# Altium integrated library TI Power Management Lighting and Display.IntLib: 745 symbols (part 34 of 48)
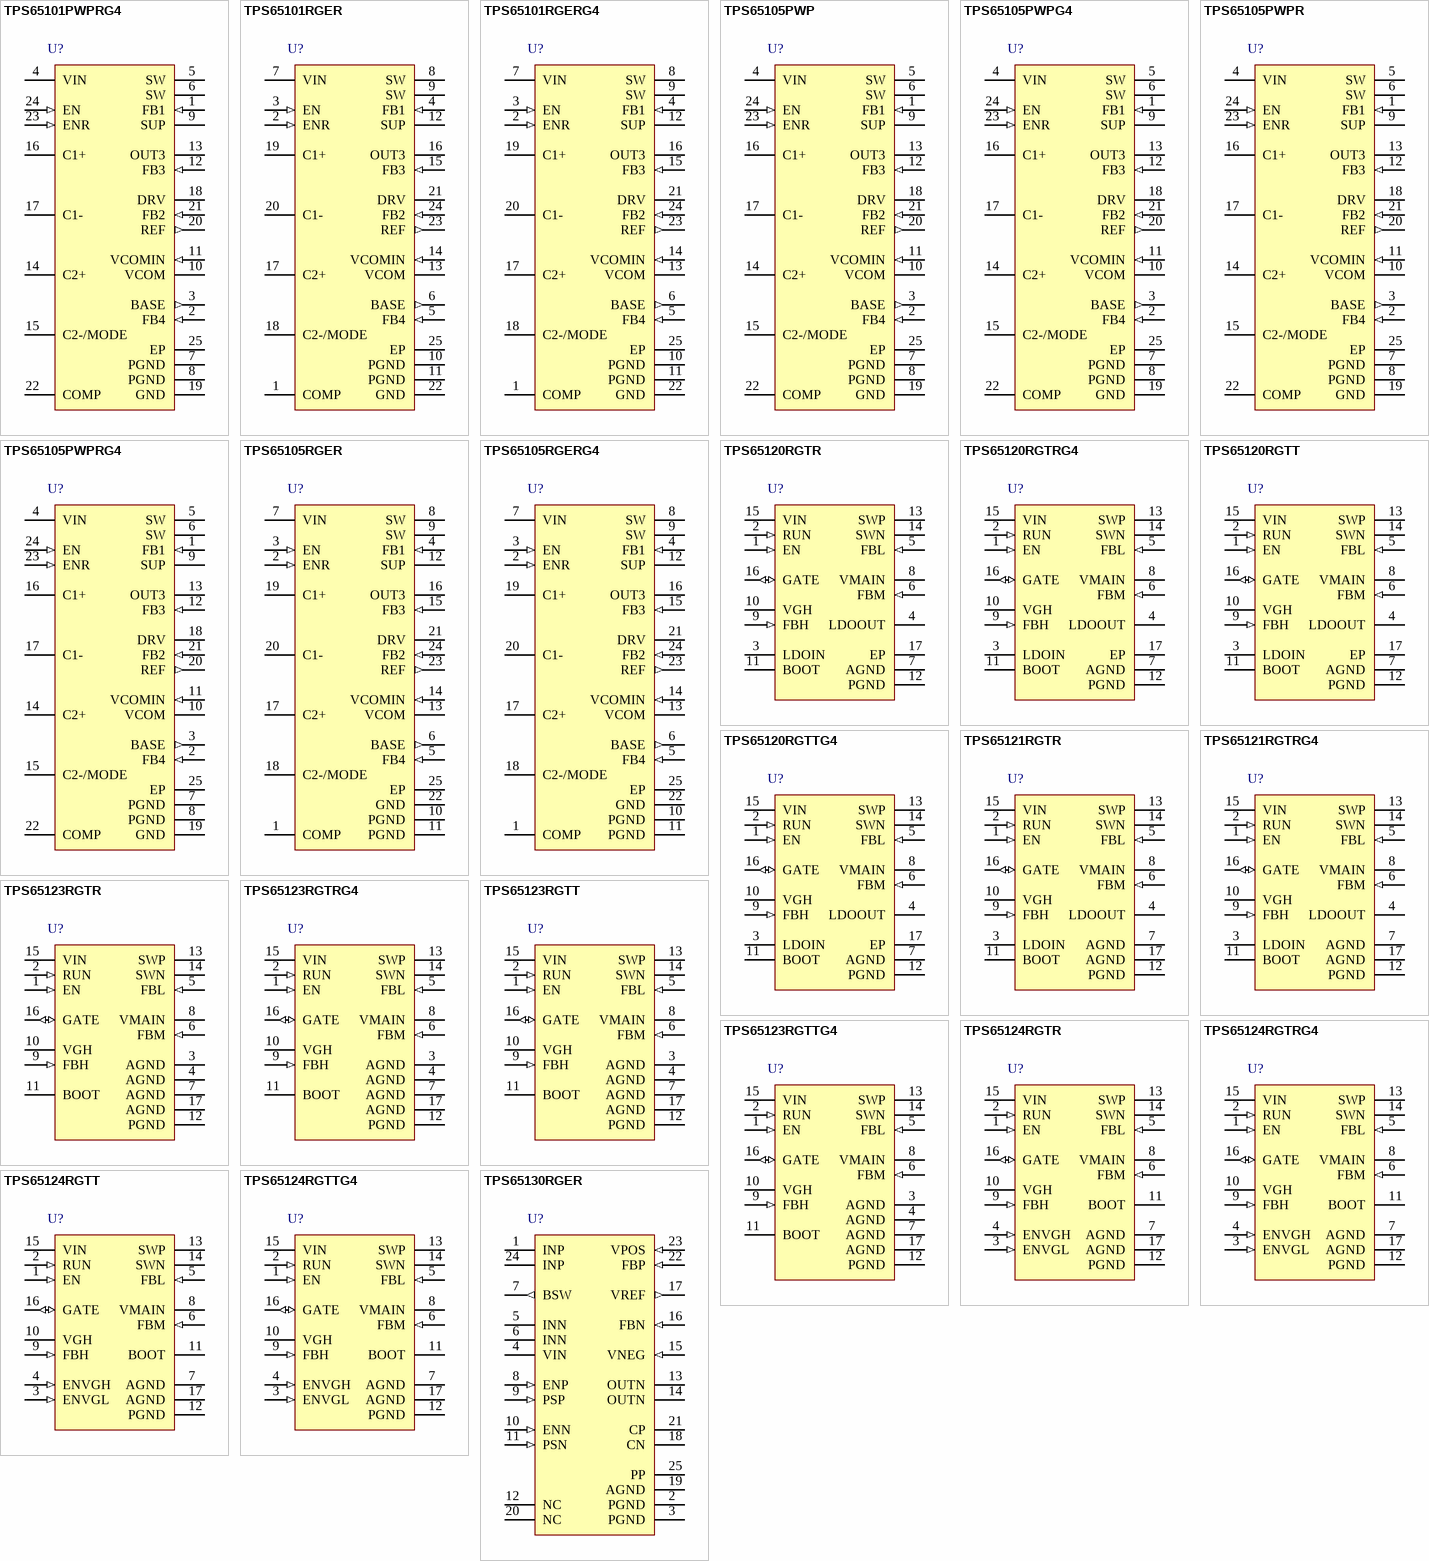
[diagram p64: symbols TPS65101PWPRG4 to TPS65130RGER]

## TPS65120RGTRG4
designator U?
4-Channel Single Inductor Multiple Outputs (SIMO) Bias IC with Fixed 3.3 V Vlogic, 2.5 to 5.5 V, -40 to 85 degC, 16-pin QFN (RGT16), Green (RoHS & no Sb/Br); Manufacturer: Texas Instruments; PartNumber: TPS65120RGTRG4; Iq(Typ)(mA): 0.181; Rating: Catalog; SubFamily: LCD/OLED Display Bias Solutions; Switching Frequency(Typ)(kHz): 4000; Synchronous Rectification: TRUE; Topology: Boost, Inverting Buck/Boost; Vin(Max)(V): 5.5; Vin(Min)(V): 2.5; DatasheetVersion: SLVS531A; PackageVersion: 4203495/H; PackageReference: RGT16-1700X1700TP; PackageDescription: 16-Pin Plastic Flat Pack, Body 3 x 3 mm, Pitch 0.5 mm; Supplier 1: Digi-Key; Supplier Part Number 1: TPS65120RGTRG4-ND; Supplier 2: Mouser; Supplier Part Number 2: 595-TPS65120RGTRG4; Eco-Plan: Green (RoHS & no Sb/Br); Mounting Technology: Surface Mount; Code_JEDEC: MO-220; ComponentLink1Description: Manufacturer URL; ComponentLink1URL: http://www.ti.com/; ComponentLink2Description: Datasheet; ComponentLink2URL: http://www.ti.com/general/docs/lit/getliterature.tsp?genericPartNumber=TPS65120&fileType=pdf; ComponentLink3Description: Package Specification; ComponentLink3URL: http://www.ti.com/litv/pdf/mpqf119g
footprint TI-RGT16-1700X1700TP_V (QFN, 16-Leads, Body 3x3mm, Pitch 0.5mm, Thermal Pad 1.7x1.7mm)
pins: 1 EN (in) "This is the enable pin of the multiple-output dc-to-dc converter. This pin must be terminated and not be left floating. A simultaneous logic-high level on EN and RUN enables the converter and a logic-low shuts down the (See Datasheet)", 2 RUN (in) "RUN controls the external P-Channel MOSFET. This pin must be terminated and not be left floating. Forcing this pin to a logic-high level turns on the external MOSFET switch.", 3 LDOIN (power) "Auxiliary linear regulator input. If this pin is connected to GND, the voltage regulator is disabled (TPS65120/1/2). The low-dropout series-pass regulator (LDO) is enabled according to the GATE signal timing.", 4 LDOOUT (power) "Auxiliary linear regulator output", 5 FBL (in) "Feedback pin for the negative output voltage divider. Regulates to 0 V nominal. Connect feedback resistor divider between VGL and main output.", 6 FBM (in) "Feedback pin for the main output voltage divider. Regulates to 1.213V nominal.", 7 AGND (power) "Analog ground. Connect to power ground (PGND) underneath IC.", 8 VMAIN (power) "Main output", 9 FBH (in) "Feedback pin for the positive output voltage divider. Regulates to 1.213 V nominal.", 10 VGH (power) "Positive output", 11 BOOT (power) "Provides a bootstrapped supply for the rectifier MOSFET driver, enabling the gate of the MOSFET to be driven above the output voltage.", 12 PGND (power) "Power ground. Connect to AGND underneath the IC.", 13 SWP (power) "Connect the inductor to this pin. This pin is connected to the drain of the low-side MOSFET switch.", 14 SWN (power) "Connect the inductor to this pin. This pin is connected to the source of the high-side MOSFET switch.", 15 VIN (power) "This is the input voltage pin of the device.", 16 GATE (io) "This pin can either be the gate driver output to an external small P-Channel MOSFET (see application section), or an active high control input. Pulling GATE above the 1.4 V logic-high level and RUN to a logic-low level (See Datasheet)", 17 EP (power) "Exposed Thermal Die AGND"

## TPS65120RGTT
designator U?
4-Channel Single Inductor Multiple Outputs (SIMO) Bias IC with Fixed 3.3 V Vlogic, 2.5 to 5.5 V, -40 to 85 degC, 16-pin QFN (RGT16), Green (RoHS & no Sb/Br); Manufacturer: Texas Instruments; PartNumber: TPS65120RGTT; Iq(Typ)(mA): 0.181; Rating: Catalog; SubFamily: LCD/OLED Display Bias Solutions; Switching Frequency(Typ)(kHz): 4000; Synchronous Rectification: TRUE; Topology: Boost, Inverting Buck/Boost; Vin(Max)(V): 5.5; Vin(Min)(V): 2.5; DatasheetVersion: SLVS531A; PackageVersion: 4203495/H; PackageReference: RGT16-1700X1700TP; PackageDescription: 16-Pin Plastic Flat Pack, Body 3 x 3 mm, Pitch 0.5 mm; Supplier 1: Digi-Key; Supplier Part Number 1: TPS65120RGTT-ND; Supplier 2: Newark; Supplier Part Number 2: 21J9261; Supplier 3: Mouser; Supplier Part Number 3: 595-TPS65120RGTT; Eco-Plan: Green (RoHS & no Sb/Br); Mounting Technology: Surface Mount; Code_JEDEC: MO-220; ComponentLink1Description: Manufacturer URL; ComponentLink1URL: http://www.ti.com/; ComponentLink2Description: Datasheet; ComponentLink2URL: http://www.ti.com/general/docs/lit/getliterature.tsp?genericPartNumber=TPS65120&fileType=pdf; ComponentLink3Description: Package Specification; ComponentLink3URL: http://www.ti.com/litv/pdf/mpqf119g
footprint TI-RGT16-1700X1700TP_V (QFN, 16-Leads, Body 3x3mm, Pitch 0.5mm, Thermal Pad 1.7x1.7mm)
pins: 1 EN (in) "This is the enable pin of the multiple-output dc-to-dc converter. This pin must be terminated and not be left floating. A simultaneous logic-high level on EN and RUN enables the converter and a logic-low shuts down the (See Datasheet)", 2 RUN (in) "RUN controls the external P-Channel MOSFET. This pin must be terminated and not be left floating. Forcing this pin to a logic-high level turns on the external MOSFET switch.", 3 LDOIN (power) "Auxiliary linear regulator input. If this pin is connected to GND, the voltage regulator is disabled (TPS65120/1/2). The low-dropout series-pass regulator (LDO) is enabled according to the GATE signal timing.", 4 LDOOUT (power) "Auxiliary linear regulator output", 5 FBL (in) "Feedback pin for the negative output voltage divider. Regulates to 0 V nominal. Connect feedback resistor divider between VGL and main output.", 6 FBM (in) "Feedback pin for the main output voltage divider. Regulates to 1.213V nominal.", 7 AGND (power) "Analog ground. Connect to power ground (PGND) underneath IC.", 8 VMAIN (power) "Main output", 9 FBH (in) "Feedback pin for the positive output voltage divider. Regulates to 1.213 V nominal.", 10 VGH (power) "Positive output", 11 BOOT (power) "Provides a bootstrapped supply for the rectifier MOSFET driver, enabling the gate of the MOSFET to be driven above the output voltage.", 12 PGND (power) "Power ground. Connect to AGND underneath the IC.", 13 SWP (power) "Connect the inductor to this pin. This pin is connected to the drain of the low-side MOSFET switch.", 14 SWN (power) "Connect the inductor to this pin. This pin is connected to the source of the high-side MOSFET switch.", 15 VIN (power) "This is the input voltage pin of the device.", 16 GATE (io) "This pin can either be the gate driver output to an external small P-Channel MOSFET (see application section), or an active high control input. Pulling GATE above the 1.4 V logic-high level and RUN to a logic-low level (See Datasheet)", 17 EP (power) "Exposed Thermal Die AGND"

## TPS65120RGTTG4
designator U?
4-Channel Single Inductor Multiple Outputs (SIMO) Bias IC with Fixed 3.3 V Vlogic, 2.5 to 5.5 V, -40 to 85 degC, 16-pin QFN (RGT16), Green (RoHS & no Sb/Br); Manufacturer: Texas Instruments; PartNumber: TPS65120RGTTG4; Iq(Typ)(mA): 0.181; Rating: Catalog; SubFamily: LCD/OLED Display Bias Solutions; Switching Frequency(Typ)(kHz): 4000; Synchronous Rectification: TRUE; Topology: Boost, Inverting Buck/Boost; Vin(Max)(V): 5.5; Vin(Min)(V): 2.5; DatasheetVersion: SLVS531A; PackageVersion: 4203495/H; PackageReference: RGT16-1700X1700TP; PackageDescription: 16-Pin Plastic Flat Pack, Body 3 x 3 mm, Pitch 0.5 mm; Supplier 1: Digi-Key; Supplier Part Number 1: TPS65120RGTTG4-ND; Supplier 2: Farnell; Supplier Part Number 2: 1226313; Supplier 3: Mouser; Supplier Part Number 3: 595-TPS65120RGTTG4; Eco-Plan: Green (RoHS & no Sb/Br); Mounting Technology: Surface Mount; Code_JEDEC: MO-220; ComponentLink1Description: Manufacturer URL; ComponentLink1URL: http://www.ti.com/; ComponentLink2Description: Datasheet; ComponentLink2URL: http://www.ti.com/general/docs/lit/getliterature.tsp?genericPartNumber=TPS65120&fileType=pdf; ComponentLink3Description: Package Specification; ComponentLink3URL: http://www.ti.com/litv/pdf/mpqf119g
footprint TI-RGT16-1700X1700TP_V (QFN, 16-Leads, Body 3x3mm, Pitch 0.5mm, Thermal Pad 1.7x1.7mm)
pins: 1 EN (in) "This is the enable pin of the multiple-output dc-to-dc converter. This pin must be terminated and not be left floating. A simultaneous logic-high level on EN and RUN enables the converter and a logic-low shuts down the (See Datasheet)", 2 RUN (in) "RUN controls the external P-Channel MOSFET. This pin must be terminated and not be left floating. Forcing this pin to a logic-high level turns on the external MOSFET switch.", 3 LDOIN (power) "Auxiliary linear regulator input. If this pin is connected to GND, the voltage regulator is disabled (TPS65120/1/2). The low-dropout series-pass regulator (LDO) is enabled according to the GATE signal timing.", 4 LDOOUT (power) "Auxiliary linear regulator output", 5 FBL (in) "Feedback pin for the negative output voltage divider. Regulates to 0 V nominal. Connect feedback resistor divider between VGL and main output.", 6 FBM (in) "Feedback pin for the main output voltage divider. Regulates to 1.213V nominal.", 7 AGND (power) "Analog ground. Connect to power ground (PGND) underneath IC.", 8 VMAIN (power) "Main output", 9 FBH (in) "Feedback pin for the positive output voltage divider. Regulates to 1.213 V nominal.", 10 VGH (power) "Positive output", 11 BOOT (power) "Provides a bootstrapped supply for the rectifier MOSFET driver, enabling the gate of the MOSFET to be driven above the output voltage.", 12 PGND (power) "Power ground. Connect to AGND underneath the IC.", 13 SWP (power) "Connect the inductor to this pin. This pin is connected to the drain of the low-side MOSFET switch.", 14 SWN (power) "Connect the inductor to this pin. This pin is connected to the source of the high-side MOSFET switch.", 15 VIN (power) "This is the input voltage pin of the device.", 16 GATE (io) "This pin can either be the gate driver output to an external small P-Channel MOSFET (see application section), or an active high control input. Pulling GATE above the 1.4 V logic-high level and RUN to a logic-low level (See Datasheet)", 17 EP (power) "Exposed Thermal Die AGND"

## TPS65121RGTR
designator U?
4-Channel Single Inductor Multiple Outputs (SIMO) Bias IC with Fixed 1.8 V Vlogic, 2.5 to 5.5 V, -40 to 85 degC, 16-pin QFN (RGT16), Green (RoHS & no Sb/Br); Manufacturer: Texas Instruments; PartNumber: TPS65121RGTR; Iq(Typ)(mA): 0.181; Rating: Catalog; SubFamily: LCD/OLED Display Bias Solutions; Switching Frequency(Typ)(kHz): 4000; Topology: Boost, Inverting Buck/Boost; Vin(Max)(V): 5.5; Vin(Min)(V): 2.5; DatasheetVersion: SLVS531A; PackageVersion: 4203495/H; PackageReference: RGT16-1700X1700TP; PackageDescription: 16-Pin Plastic Flat Pack, Body 3 x 3 mm, Pitch 0.5 mm; Supplier 1: Digi-Key; Supplier Part Number 1: 296-17182-2-ND; Supplier 2: Digi-Key; Supplier Part Number 2: 296-17182-1-ND; Supplier 3: Digi-Key; Supplier Part Number 3: 296-17182-6-ND; Supplier 4: Mouser; Supplier Part Number 4: 595-TPS65121RGTR; Eco-Plan: Green (RoHS & no Sb/Br); Mounting Technology: Surface Mount; Code_JEDEC: MO-220; ComponentLink1Description: Manufacturer URL; ComponentLink1URL: http://www.ti.com/; ComponentLink2Description: Datasheet; ComponentLink2URL: http://www.ti.com/general/docs/lit/getliterature.tsp?genericPartNumber=TPS65121&fileType=pdf; ComponentLink3Description: Package Specification; ComponentLink3URL: http://www.ti.com/litv/pdf/mpqf119g
footprint TI-RGT16-1700X1700TP_V (QFN, 16-Leads, Body 3x3mm, Pitch 0.5mm, Thermal Pad 1.7x1.7mm)
pins: 1 EN (in) "This is the enable pin of the multiple-output dc-to-dc converter. This pin must be terminated and not be left floating. A simultaneous logic-high level on EN and RUN enables the converter and a logic-low shuts down the (See Datasheet)", 2 RUN (in) "RUN controls the external P-Channel MOSFET. This pin must be terminated and not be left floating. Forcing this pin to a logic-high level turns on the external MOSFET switch.", 3 LDOIN (power) "Auxiliary linear regulator input. If this pin is connected to GND, the voltage regulator is disabled (TPS65120/1/2). The low-dropout series-pass regulator (LDO) is enabled according to the GATE signal timing.", 4 LDOOUT (power) "Auxiliary linear regulator output (TPS65120/1/2).", 5 FBL (in) "Feedback pin for the negative output voltage divider. Regulates to 0 V nominal. Connect feedback resistor divider between VGL and main output.", 6 FBM (in) "Feedback pin for the main output voltage divider. Regulates to 1.213V nominal.", 7 AGND (power) "Analog ground. Connect to power ground (PGND) underneath IC. Pins 3 and 4 are only used for AGND in TPS65123.", 8 VMAIN (power) "Main output", 9 FBH (in) "Feedback pin for the positive output voltage divider. Regulates to 1.213 V nominal.", 10 VGH (power) "Positive output", 11 BOOT (power) "Provides a bootstrapped supply for the rectifier MOSFET driver, enabling the gate of the MOSFET to be driven above the output voltage.", 12 PGND (power) "Power ground. Connect to AGND underneath the IC.", 13 SWP (power) "Connect the inductor to this pin. This pin is connected to the drain of the low-side MOSFET switch.", 14 SWN (power) "Connect the inductor to this pin. This pin is connected to the source of the high-side MOSFET switch.", 15 VIN (power) "This is the input voltage pin of the device", 16 GATE (io) "This pin can either be the gate driver output to an external small P-Channel MOSFET (see application section), or an active high control input. Pulling GATE above the 1.4 V logic-high level and RUN to a logic-low level (See Datasheet)", 17 AGND (power) "Exposed Thermal Die"

## TPS65121RGTRG4
designator U?
4-Channel Single Inductor Multiple Outputs (SIMO) Bias IC with Fixed 1.8 V Vlogic, 2.5 to 5.5 V, -40 to 85 degC, 16-pin QFN (RGT16), Green (RoHS & no Sb/Br); Manufacturer: Texas Instruments; PartNumber: TPS65121RGTRG4; Iq(Typ)(mA): 0.181; Rating: Catalog; SubFamily: LCD/OLED Display Bias Solutions; Switching Frequency(Typ)(kHz): 4000; Topology: Boost, Inverting Buck/Boost; Vin(Max)(V): 5.5; Vin(Min)(V): 2.5; DatasheetVersion: SLVS531A; PackageVersion: 4203495/H; PackageReference: RGT16-1700X1700TP; PackageDescription: 16-Pin Plastic Flat Pack, Body 3 x 3 mm, Pitch 0.5 mm; Supplier 1: Digi-Key; Supplier Part Number 1: TPS65121RGTRG4-ND; Supplier 2: Newark; Supplier Part Number 2: 24K6054; Supplier 3: Mouser; Supplier Part Number 3: 595-TPS65121RGTRG4; Eco-Plan: Green (RoHS & no Sb/Br); Mounting Technology: Surface Mount; Code_JEDEC: MO-220; ComponentLink1Description: Manufacturer URL; ComponentLink1URL: http://www.ti.com/; ComponentLink2Description: Datasheet; ComponentLink2URL: http://www.ti.com/general/docs/lit/getliterature.tsp?genericPartNumber=TPS65121&fileType=pdf; ComponentLink3Description: Package Specification; ComponentLink3URL: http://www.ti.com/litv/pdf/mpqf119g
footprint TI-RGT16-1700X1700TP_V (QFN, 16-Leads, Body 3x3mm, Pitch 0.5mm, Thermal Pad 1.7x1.7mm)
pins: 1 EN (in) "This is the enable pin of the multiple-output dc-to-dc converter. This pin must be terminated and not be left floating. A simultaneous logic-high level on EN and RUN enables the converter and a logic-low shuts down the (See Datasheet)", 2 RUN (in) "RUN controls the external P-Channel MOSFET. This pin must be terminated and not be left floating. Forcing this pin to a logic-high level turns on the external MOSFET switch.", 3 LDOIN (power) "Auxiliary linear regulator input. If this pin is connected to GND, the voltage regulator is disabled (TPS65120/1/2). The low-dropout series-pass regulator (LDO) is enabled according to the GATE signal timing.", 4 LDOOUT (power) "Auxiliary linear regulator output (TPS65120/1/2).", 5 FBL (in) "Feedback pin for the negative output voltage divider. Regulates to 0 V nominal. Connect feedback resistor divider between VGL and main output.", 6 FBM (in) "Feedback pin for the main output voltage divider. Regulates to 1.213V nominal.", 7 AGND (power) "Analog ground. Connect to power ground (PGND) underneath IC. Pins 3 and 4 are only used for AGND in TPS65123.", 8 VMAIN (power) "Main output", 9 FBH (in) "Feedback pin for the positive output voltage divider. Regulates to 1.213 V nominal.", 10 VGH (power) "Positive output", 11 BOOT (power) "Provides a bootstrapped supply for the rectifier MOSFET driver, enabling the gate of the MOSFET to be driven above the output voltage.", 12 PGND (power) "Power ground. Connect to AGND underneath the IC.", 13 SWP (power) "Connect the inductor to this pin. This pin is connected to the drain of the low-side MOSFET switch.", 14 SWN (power) "Connect the inductor to this pin. This pin is connected to the source of the high-side MOSFET switch.", 15 VIN (power) "This is the input voltage pin of the device", 16 GATE (io) "This pin can either be the gate driver output to an external small P-Channel MOSFET (see application section), or an active high control input. Pulling GATE above the 1.4 V logic-high level and RUN to a logic-low level (See Datasheet)", 17 AGND (power) "Exposed Thermal Die"

## TPS65123RGTR
designator U?
3-Channel Single Inductor Multiple Outputs (SIMO) Bias IC, 2.5 to 5.5 V, -40 to 85 degC, 16-pin QFN (RGT16), Green (RoHS & no Sb/Br); Manufacturer: Texas Instruments; PartNumber: TPS65123RGTR; Iq(Typ)(mA): 0.181; Rating: Catalog; SubFamily: LCD/OLED Display Bias Solutions; Switching Frequency(Typ)(kHz): 4000; Topology: Boost, Inverting Buck/Boost; Vin(Max)(V): 5.5; Vin(Min)(V): 2.5; DatasheetVersion: SLVS531A; PackageVersion: 4203495/H; PackageReference: RGT16-1700X1700TP; PackageDescription: 16-Pin Plastic Flat Pack, Body 3 x 3 mm, Pitch 0.5 mm; Supplier 1: Digi-Key; Supplier Part Number 1: 296-17183-2-ND; Supplier 2: Digi-Key; Supplier Part Number 2: 296-17183-1-ND; Supplier 3: Digi-Key; Supplier Part Number 3: 296-17183-6-ND; Supplier 4: Mouser; Supplier Part Number 4: 595-TPS65123RGTR; Eco-Plan: Green (RoHS & no Sb/Br); Mounting Technology: Surface Mount; Code_JEDEC: MO-220; ComponentLink1Description: Manufacturer URL; ComponentLink1URL: http://www.ti.com/; ComponentLink2Description: Datasheet; ComponentLink2URL: http://www.ti.com/general/docs/lit/getliterature.tsp?genericPartNumber=TPS65123&fileType=pdf; ComponentLink3Description: Package Specification; ComponentLink3URL: http://www.ti.com/litv/pdf/mpqf119g
footprint TI-RGT16-1700X1700TP_V (QFN, 16-Leads, Body 3x3mm, Pitch 0.5mm, Thermal Pad 1.7x1.7mm)
pins: 1 EN (in) "This is the enable pin of the multiple-output dc-to-dc converter. This pin must be terminated and not be left floating. A simultaneous logic-high level on EN and RUN enables the converter and a logic-low shuts down the (See Datasheet)", 2 RUN (in) "RUN controls the external P-Channel MOSFET. This pin must be terminated and not be left floating. Forcing this pin to a logic-high level turns on the external MOSFET switch.", 3 AGND (power) "Analog ground. Connect to power ground (PGND) underneath IC. Pins 3 and 4 are only used for AGND in TPS65123.", 4 AGND (power) "Analog ground. Connect to power ground (PGND) underneath IC. Pins 3 and 4 are only used for AGND in TPS65123.", 5 FBL (in) "Feedback pin for the negative output voltage divider. Regulates to 0 V nominal. Connect feedback resistor divider between VGL and main output.", 6 FBM (in) "Feedback pin for the main output voltage divider. Regulates to 1.213V nominal.", 7 AGND (power) "Analog ground. Connect to power ground (PGND) underneath IC. Pins 3 and 4 are only used for AGND in TPS65123.", 8 VMAIN (power) "Main output", 9 FBH (in) "Feedback pin for the positive output voltage divider. Regulates to 1.213 V nominal.", 10 VGH (power) "Positive output", 11 BOOT (power) "Provides a bootstrapped supply for the rectifier MOSFET driver, enabling the gate of the MOSFET to be driven above the output voltage.", 12 PGND (power) "Power ground. Connect to AGND underneath the IC.", 13 SWP (power) "Connect the inductor to this pin. This pin is connected to the drain of the low-side MOSFET switch.", 14 SWN (power) "Connect the inductor to this pin. This pin is connected to the source of the high-side MOSFET switch.", 15 VIN (power) "This is the input voltage pin of the device", 16 GATE (io) "This pin can either be the gate driver output to an external small P-Channel MOSFET (see application section), or an active high control input. Pulling GATE above the 1.4 V logic-high level and RUN to a logic-low level (See Datasheet)", 17 AGND (power) "Exposed Thermal Die"

## TPS65123RGTRG4
designator U?
3-Channel Single Inductor Multiple Outputs (SIMO) Bias IC, 2.5 to 5.5 V, -40 to 85 degC, 16-pin QFN (RGT16), Green (RoHS & no Sb/Br); Manufacturer: Texas Instruments; PartNumber: TPS65123RGTRG4; Iq(Typ)(mA): 0.181; Rating: Catalog; SubFamily: LCD/OLED Display Bias Solutions; Switching Frequency(Typ)(kHz): 4000; Topology: Boost, Inverting Buck/Boost; Vin(Max)(V): 5.5; Vin(Min)(V): 2.5; DatasheetVersion: SLVS531A; PackageVersion: 4203495/H; PackageReference: RGT16-1700X1700TP; PackageDescription: 16-Pin Plastic Flat Pack, Body 3 x 3 mm, Pitch 0.5 mm; Supplier 1: Digi-Key; Supplier Part Number 1: TPS65123RGTRG4-ND; Supplier 2: Mouser; Supplier Part Number 2: 595-TPS65123RGTRG4; Eco-Plan: Green (RoHS & no Sb/Br); Mounting Technology: Surface Mount; Code_JEDEC: MO-220; ComponentLink1Description: Manufacturer URL; ComponentLink1URL: http://www.ti.com/; ComponentLink2Description: Datasheet; ComponentLink2URL: http://www.ti.com/general/docs/lit/getliterature.tsp?genericPartNumber=TPS65123&fileType=pdf; ComponentLink3Description: Package Specification; ComponentLink3URL: http://www.ti.com/litv/pdf/mpqf119g
footprint TI-RGT16-1700X1700TP_V (QFN, 16-Leads, Body 3x3mm, Pitch 0.5mm, Thermal Pad 1.7x1.7mm)
pins: 1 EN (in) "This is the enable pin of the multiple-output dc-to-dc converter. This pin must be terminated and not be left floating. A simultaneous logic-high level on EN and RUN enables the converter and a logic-low shuts down the (See Datasheet)", 2 RUN (in) "RUN controls the external P-Channel MOSFET. This pin must be terminated and not be left floating. Forcing this pin to a logic-high level turns on the external MOSFET switch.", 3 AGND (power) "Analog ground. Connect to power ground (PGND) underneath IC. Pins 3 and 4 are only used for AGND in TPS65123.", 4 AGND (power) "Analog ground. Connect to power ground (PGND) underneath IC. Pins 3 and 4 are only used for AGND in TPS65123.", 5 FBL (in) "Feedback pin for the negative output voltage divider. Regulates to 0 V nominal. Connect feedback resistor divider between VGL and main output.", 6 FBM (in) "Feedback pin for the main output voltage divider. Regulates to 1.213V nominal.", 7 AGND (power) "Analog ground. Connect to power ground (PGND) underneath IC. Pins 3 and 4 are only used for AGND in TPS65123.", 8 VMAIN (power) "Main output", 9 FBH (in) "Feedback pin for the positive output voltage divider. Regulates to 1.213 V nominal.", 10 VGH (power) "Positive output", 11 BOOT (power) "Provides a bootstrapped supply for the rectifier MOSFET driver, enabling the gate of the MOSFET to be driven above the output voltage.", 12 PGND (power) "Power ground. Connect to AGND underneath the IC.", 13 SWP (power) "Connect the inductor to this pin. This pin is connected to the drain of the low-side MOSFET switch.", 14 SWN (power) "Connect the inductor to this pin. This pin is connected to the source of the high-side MOSFET switch.", 15 VIN (power) "This is the input voltage pin of the device", 16 GATE (io) "This pin can either be the gate driver output to an external small P-Channel MOSFET (see application section), or an active high control input. Pulling GATE above the 1.4 V logic-high level and RUN to a logic-low level (See Datasheet)", 17 AGND (power) "Exposed Thermal Die"

## TPS65123RGTT
designator U?
3-Channel Single Inductor Multiple Outputs (SIMO) Bias IC, 2.5 to 5.5 V, -40 to 85 degC, 16-pin QFN (RGT16), Green (RoHS & no Sb/Br); Manufacturer: Texas Instruments; PartNumber: TPS65123RGTT; Iq(Typ)(mA): 0.181; Rating: Catalog; SubFamily: LCD/OLED Display Bias Solutions; Switching Frequency(Typ)(kHz): 4000; Topology: Boost, Inverting Buck/Boost; Vin(Max)(V): 5.5; Vin(Min)(V): 2.5; DatasheetVersion: SLVS531A; PackageVersion: 4203495/H; PackageReference: RGT16-1700X1700TP; PackageDescription: 16-Pin Plastic Flat Pack, Body 3 x 3 mm, Pitch 0.5 mm; Supplier 1: Digi-Key; Supplier Part Number 1: TPS65123RGTT-ND; Supplier 2: Newark; Supplier Part Number 2: 21J9265; Supplier 3: Mouser; Supplier Part Number 3: 595-TPS65123RGTT; Eco-Plan: Green (RoHS & no Sb/Br); Mounting Technology: Surface Mount; Code_JEDEC: MO-220; ComponentLink1Description: Manufacturer URL; ComponentLink1URL: http://www.ti.com/; ComponentLink2Description: Datasheet; ComponentLink2URL: http://www.ti.com/general/docs/lit/getliterature.tsp?genericPartNumber=TPS65123&fileType=pdf; ComponentLink3Description: Package Specification; ComponentLink3URL: http://www.ti.com/litv/pdf/mpqf119g
footprint TI-RGT16-1700X1700TP_V (QFN, 16-Leads, Body 3x3mm, Pitch 0.5mm, Thermal Pad 1.7x1.7mm)
pins: 1 EN (in) "This is the enable pin of the multiple-output dc-to-dc converter. This pin must be terminated and not be left floating. A simultaneous logic-high level on EN and RUN enables the converter and a logic-low shuts down the (See Datasheet)", 2 RUN (in) "RUN controls the external P-Channel MOSFET. This pin must be terminated and not be left floating. Forcing this pin to a logic-high level turns on the external MOSFET switch.", 3 AGND (power) "Analog ground. Connect to power ground (PGND) underneath IC. Pins 3 and 4 are only used for AGND in TPS65123.", 4 AGND (power) "Analog ground. Connect to power ground (PGND) underneath IC. Pins 3 and 4 are only used for AGND in TPS65123.", 5 FBL (in) "Feedback pin for the negative output voltage divider. Regulates to 0 V nominal. Connect feedback resistor divider between VGL and main output.", 6 FBM (in) "Feedback pin for the main output voltage divider. Regulates to 1.213V nominal.", 7 AGND (power) "Analog ground. Connect to power ground (PGND) underneath IC. Pins 3 and 4 are only used for AGND in TPS65123.", 8 VMAIN (power) "Main output", 9 FBH (in) "Feedback pin for the positive output voltage divider. Regulates to 1.213 V nominal.", 10 VGH (power) "Positive output", 11 BOOT (power) "Provides a bootstrapped supply for the rectifier MOSFET driver, enabling the gate of the MOSFET to be driven above the output voltage.", 12 PGND (power) "Power ground. Connect to AGND underneath the IC.", 13 SWP (power) "Connect the inductor to this pin. This pin is connected to the drain of the low-side MOSFET switch.", 14 SWN (power) "Connect the inductor to this pin. This pin is connected to the source of the high-side MOSFET switch.", 15 VIN (power) "This is the input voltage pin of the device", 16 GATE (io) "This pin can either be the gate driver output to an external small P-Channel MOSFET (see application section), or an active high control input. Pulling GATE above the 1.4 V logic-high level and RUN to a logic-low level (See Datasheet)", 17 AGND (power) "Exposed Thermal Die"

## TPS65123RGTTG4
designator U?
3-Channel Single Inductor Multiple Outputs (SIMO) Bias IC, 2.5 to 5.5 V, -40 to 85 degC, 16-pin QFN (RGT16), Green (RoHS & no Sb/Br); Manufacturer: Texas Instruments; PartNumber: TPS65123RGTTG4; Iq(Typ)(mA): 0.181; Rating: Catalog; SubFamily: LCD/OLED Display Bias Solutions; Switching Frequency(Typ)(kHz): 4000; Topology: Boost, Inverting Buck/Boost; Vin(Max)(V): 5.5; Vin(Min)(V): 2.5; DatasheetVersion: SLVS531A; PackageVersion: 4203495/H; PackageReference: RGT16-1700X1700TP; PackageDescription: 16-Pin Plastic Flat Pack, Body 3 x 3 mm, Pitch 0.5 mm; Supplier 1: Digi-Key; Supplier Part Number 1: TPS65123RGTTG4-ND; Supplier 2: Mouser; Supplier Part Number 2: 595-TPS65123RGTTG4; Eco-Plan: Green (RoHS & no Sb/Br); Mounting Technology: Surface Mount; Code_JEDEC: MO-220; ComponentLink1Description: Manufacturer URL; ComponentLink1URL: http://www.ti.com/; ComponentLink2Description: Datasheet; ComponentLink2URL: http://www.ti.com/general/docs/lit/getliterature.tsp?genericPartNumber=TPS65123&fileType=pdf; ComponentLink3Description: Package Specification; ComponentLink3URL: http://www.ti.com/litv/pdf/mpqf119g
footprint TI-RGT16-1700X1700TP_V (QFN, 16-Leads, Body 3x3mm, Pitch 0.5mm, Thermal Pad 1.7x1.7mm)
pins: 1 EN (in) "This is the enable pin of the multiple-output dc-to-dc converter. This pin must be terminated and not be left floating. A simultaneous logic-high level on EN and RUN enables the converter and a logic-low shuts down the (See Datasheet)", 2 RUN (in) "RUN controls the external P-Channel MOSFET. This pin must be terminated and not be left floating. Forcing this pin to a logic-high level turns on the external MOSFET switch.", 3 AGND (power) "Analog ground. Connect to power ground (PGND) underneath IC. Pins 3 and 4 are only used for AGND in TPS65123.", 4 AGND (power) "Analog ground. Connect to power ground (PGND) underneath IC. Pins 3 and 4 are only used for AGND in TPS65123.", 5 FBL (in) "Feedback pin for the negative output voltage divider. Regulates to 0 V nominal. Connect feedback resistor divider between VGL and main output.", 6 FBM (in) "Feedback pin for the main output voltage divider. Regulates to 1.213V nominal.", 7 AGND (power) "Analog ground. Connect to power ground (PGND) underneath IC. Pins 3 and 4 are only used for AGND in TPS65123.", 8 VMAIN (power) "Main output", 9 FBH (in) "Feedback pin for the positive output voltage divider. Regulates to 1.213 V nominal.", 10 VGH (power) "Positive output", 11 BOOT (power) "Provides a bootstrapped supply for the rectifier MOSFET driver, enabling the gate of the MOSFET to be driven above the output voltage.", 12 PGND (power) "Power ground. Connect to AGND underneath the IC.", 13 SWP (power) "Connect the inductor to this pin. This pin is connected to the drain of the low-side MOSFET switch.", 14 SWN (power) "Connect the inductor to this pin. This pin is connected to the source of the high-side MOSFET switch.", 15 VIN (power) "This is the input voltage pin of the device", 16 GATE (io) "This pin can either be the gate driver output to an external small P-Channel MOSFET (see application section), or an active high control input. Pulling GATE above the 1.4 V logic-high level and RUN to a logic-low level (See Datasheet)", 17 AGND (power) "Exposed Thermal Die"

## TPS65124RGTR
designator U?
3-Channel Single Inductor Multiple Outputs (SIMO) Bias IC with Adjustable Sequencing, 2.5 to 5.5 V, -40 to 85 degC, 16-pin QFN (RGT16), Green (RoHS & no Sb/Br); Manufacturer: Texas Instruments; PartNumber: TPS65124RGTR; Iq(Typ)(mA): 0.181; Rating: Catalog; SubFamily: LCD/OLED Display Bias Solutions; Switching Frequency(Typ)(kHz): 4000; Topology: Boost, Inverting Buck/Boost; Vin(Max)(V): 5.5; Vin(Min)(V): 2.5; DatasheetVersion: SLVS531A; PackageVersion: 4203495/H; PackageReference: RGT16-1700X1700TP; PackageDescription: 16-Pin Plastic Flat Pack, Body 3 x 3 mm, Pitch 0.5 mm; Supplier 1: Digi-Key; Supplier Part Number 1: 296-17184-2-ND; Supplier 2: Digi-Key; Supplier Part Number 2: 296-17184-1-ND; Supplier 3: Digi-Key; Supplier Part Number 3: 296-17184-6-ND; Supplier 4: Newark; Supplier Part Number 4: 21J9266; Supplier 5: Mouser; Supplier Part Number 5: 595-TPS65124RGTR; Eco-Plan: Green (RoHS & no Sb/Br); Mounting Technology: Surface Mount; Code_JEDEC: MO-220; ComponentLink1Description: Manufacturer URL; ComponentLink1URL: http://www.ti.com/; ComponentLink2Description: Datasheet; ComponentLink2URL: http://www.ti.com/general/docs/lit/getliterature.tsp?genericPartNumber=TPS65124&fileType=pdf; ComponentLink3Description: Package Specification; ComponentLink3URL: http://www.ti.com/litv/pdf/mpqf119g
footprint TI-RGT16-1700X1700TP_V (QFN, 16-Leads, Body 3x3mm, Pitch 0.5mm, Thermal Pad 1.7x1.7mm)
pins: 1 EN (in) "This is the enable pin of the multiple-output dc-to-dc converter. This pin must be terminated and not be left floating. A simultaneous logic-high level on EN and RUN enables the converter and a logic-low shuts down the (See Datasheet)", 2 RUN (in) "RUN controls the external P-Channel MOSFET. This pin must be terminated and not be left floating. Forcing this pin to a logic-high level turns on the external MOSFET switch.", 3 ENVGL (in) "Enable pin for negative output (TPS65124). This pin should be terminated and not be left floating", 4 ENVGH (in) "Enable pin for positive output (TPS65124). This pin should be terminated and not be left floating", 5 FBL (in) "Feedback pin for the negative output voltage divider. Regulates to 0 V nominal. Connect feedback resistor divider between VGL and main output.", 6 FBM (in) "Feedback pin for the main output voltage divider. Regulates to 1.213V nominal.", 7 AGND (power) "Analog ground. Connect to power ground (PGND) underneath IC. Pins 3 and 4 are only used for AGND in TPS65123.", 8 VMAIN (power) "Main output", 9 FBH (in) "Feedback pin for the positive output voltage divider. Regulates to 1.213 V nominal.", 10 VGH (power) "Positive output", 11 BOOT (power) "Provides a bootstrapped supply for the rectifier MOSFET driver, enabling the gate of the MOSFET to be driven above the output voltage.", 12 PGND (power) "Power ground. Connect to AGND underneath the IC.", 13 SWP (power) "Connect the inductor to this pin. This pin is connected to the drain of the low-side MOSFET switch.", 14 SWN (power) "Connect the inductor to this pin. This pin is connected to the source of the high-side MOSFET switch.", 15 VIN (power) "This is the input voltage pin of the device", 16 GATE (io) "This pin can either be the gate driver output to an external small P-Channel MOSFET (see application section), or an active high control input. Pulling GATE above the 1.4 V logic-high level and RUN to a logic-low level (See Datasheet)", 17 AGND (power) "Exposed Thermal Die"

## TPS65124RGTRG4
designator U?
3-Channel Single Inductor Multiple Outputs (SIMO) Bias IC with Adjustable Sequencing, 2.5 to 5.5 V, -40 to 85 degC, 16-pin QFN (RGT16), Green (RoHS & no Sb/Br); Manufacturer: Texas Instruments; PartNumber: TPS65124RGTRG4; Iq(Typ)(mA): 0.181; Rating: Catalog; SubFamily: LCD/OLED Display Bias Solutions; Switching Frequency(Typ)(kHz): 4000; Topology: Boost, Inverting Buck/Boost; Vin(Max)(V): 5.5; Vin(Min)(V): 2.5; DatasheetVersion: SLVS531A; PackageVersion: 4203495/H; PackageReference: RGT16-1700X1700TP; PackageDescription: 16-Pin Plastic Flat Pack, Body 3 x 3 mm, Pitch 0.5 mm; Supplier 1: Digi-Key; Supplier Part Number 1: TPS65124RGTRG4-ND; Supplier 2: Newark; Supplier Part Number 2: 71J8218; Supplier 3: Mouser; Supplier Part Number 3: 595-TPS65124RGTRG4; Eco-Plan: Green (RoHS & no Sb/Br); Mounting Technology: Surface Mount; Code_JEDEC: MO-220; ComponentLink1Description: Manufacturer URL; ComponentLink1URL: http://www.ti.com/; ComponentLink2Description: Datasheet; ComponentLink2URL: http://www.ti.com/general/docs/lit/getliterature.tsp?genericPartNumber=TPS65124&fileType=pdf; ComponentLink3Description: Package Specification; ComponentLink3URL: http://www.ti.com/litv/pdf/mpqf119g
footprint TI-RGT16-1700X1700TP_V (QFN, 16-Leads, Body 3x3mm, Pitch 0.5mm, Thermal Pad 1.7x1.7mm)
pins: 1 EN (in) "This is the enable pin of the multiple-output dc-to-dc converter. This pin must be terminated and not be left floating. A simultaneous logic-high level on EN and RUN enables the converter and a logic-low shuts down the (See Datasheet)", 2 RUN (in) "RUN controls the external P-Channel MOSFET. This pin must be terminated and not be left floating. Forcing this pin to a logic-high level turns on the external MOSFET switch.", 3 ENVGL (in) "Enable pin for negative output (TPS65124). This pin should be terminated and not be left floating", 4 ENVGH (in) "Enable pin for positive output (TPS65124). This pin should be terminated and not be left floating", 5 FBL (in) "Feedback pin for the negative output voltage divider. Regulates to 0 V nominal. Connect feedback resistor divider between VGL and main output.", 6 FBM (in) "Feedback pin for the main output voltage divider. Regulates to 1.213V nominal.", 7 AGND (power) "Analog ground. Connect to power ground (PGND) underneath IC. Pins 3 and 4 are only used for AGND in TPS65123.", 8 VMAIN (power) "Main output", 9 FBH (in) "Feedback pin for the positive output voltage divider. Regulates to 1.213 V nominal.", 10 VGH (power) "Positive output", 11 BOOT (power) "Provides a bootstrapped supply for the rectifier MOSFET driver, enabling the gate of the MOSFET to be driven above the output voltage.", 12 PGND (power) "Power ground. Connect to AGND underneath the IC.", 13 SWP (power) "Connect the inductor to this pin. This pin is connected to the drain of the low-side MOSFET switch.", 14 SWN (power) "Connect the inductor to this pin. This pin is connected to the source of the high-side MOSFET switch.", 15 VIN (power) "This is the input voltage pin of the device", 16 GATE (io) "This pin can either be the gate driver output to an external small P-Channel MOSFET (see application section), or an active high control input. Pulling GATE above the 1.4 V logic-high level and RUN to a logic-low level (See Datasheet)", 17 AGND (power) "Exposed Thermal Die"

## TPS65124RGTT
designator U?
3-Channel Single Inductor Multiple Outputs (SIMO) Bias IC with Adjustable Sequencing, 2.5 to 5.5 V, -40 to 85 degC, 16-pin QFN (RGT16), Green (RoHS & no Sb/Br); Manufacturer: Texas Instruments; PartNumber: TPS65124RGTT; Iq(Typ)(mA): 0.181; Rating: Catalog; SubFamily: LCD/OLED Display Bias Solutions; Switching Frequency(Typ)(kHz): 4000; Topology: Boost, Inverting Buck/Boost; Vin(Max)(V): 5.5; Vin(Min)(V): 2.5; DatasheetVersion: SLVS531A; PackageVersion: 4203495/H; PackageReference: RGT16-1700X1700TP; PackageDescription: 16-Pin Plastic Flat Pack, Body 3 x 3 mm, Pitch 0.5 mm; Supplier 1: Digi-Key; Supplier Part Number 1: TPS65124RGTT-ND; Supplier 2: Newark; Supplier Part Number 2: 21J9267; Supplier 3: Mouser; Supplier Part Number 3: 595-TPS65124RGTT; Eco-Plan: Green (RoHS & no Sb/Br); Mounting Technology: Surface Mount; Code_JEDEC: MO-220; ComponentLink1Description: Manufacturer URL; ComponentLink1URL: http://www.ti.com/; ComponentLink2Description: Datasheet; ComponentLink2URL: http://www.ti.com/general/docs/lit/getliterature.tsp?genericPartNumber=TPS65124&fileType=pdf; ComponentLink3Description: Package Specification; ComponentLink3URL: http://www.ti.com/litv/pdf/mpqf119g
footprint TI-RGT16-1700X1700TP_V (QFN, 16-Leads, Body 3x3mm, Pitch 0.5mm, Thermal Pad 1.7x1.7mm)
pins: 1 EN (in) "This is the enable pin of the multiple-output dc-to-dc converter. This pin must be terminated and not be left floating. A simultaneous logic-high level on EN and RUN enables the converter and a logic-low shuts down the (See Datasheet)", 2 RUN (in) "RUN controls the external P-Channel MOSFET. This pin must be terminated and not be left floating. Forcing this pin to a logic-high level turns on the external MOSFET switch.", 3 ENVGL (in) "Enable pin for negative output (TPS65124). This pin should be terminated and not be left floating", 4 ENVGH (in) "Enable pin for positive output (TPS65124). This pin should be terminated and not be left floating", 5 FBL (in) "Feedback pin for the negative output voltage divider. Regulates to 0 V nominal. Connect feedback resistor divider between VGL and main output.", 6 FBM (in) "Feedback pin for the main output voltage divider. Regulates to 1.213V nominal.", 7 AGND (power) "Analog ground. Connect to power ground (PGND) underneath IC. Pins 3 and 4 are only used for AGND in TPS65123.", 8 VMAIN (power) "Main output", 9 FBH (in) "Feedback pin for the positive output voltage divider. Regulates to 1.213 V nominal.", 10 VGH (power) "Positive output", 11 BOOT (power) "Provides a bootstrapped supply for the rectifier MOSFET driver, enabling the gate of the MOSFET to be driven above the output voltage.", 12 PGND (power) "Power ground. Connect to AGND underneath the IC.", 13 SWP (power) "Connect the inductor to this pin. This pin is connected to the drain of the low-side MOSFET switch.", 14 SWN (power) "Connect the inductor to this pin. This pin is connected to the source of the high-side MOSFET switch.", 15 VIN (power) "This is the input voltage pin of the device", 16 GATE (io) "This pin can either be the gate driver output to an external small P-Channel MOSFET (see application section), or an active high control input. Pulling GATE above the 1.4 V logic-high level and RUN to a logic-low level (See Datasheet)", 17 AGND (power) "Exposed Thermal Die"

## TPS65124RGTTG4
designator U?
3-Channel Single Inductor Multiple Outputs (SIMO) Bias IC with Adjustable Sequencing, 2.5 to 5.5 V, -40 to 85 degC, 16-pin QFN (RGT16), Green (RoHS & no Sb/Br); Manufacturer: Texas Instruments; PartNumber: TPS65124RGTTG4; Iq(Typ)(mA): 0.181; Rating: Catalog; SubFamily: LCD/OLED Display Bias Solutions; Switching Frequency(Typ)(kHz): 4000; Topology: Boost, Inverting Buck/Boost; Vin(Max)(V): 5.5; Vin(Min)(V): 2.5; DatasheetVersion: SLVS531A; PackageVersion: 4203495/H; PackageReference: RGT16-1700X1700TP; PackageDescription: 16-Pin Plastic Flat Pack, Body 3 x 3 mm, Pitch 0.5 mm; Supplier 1: Digi-Key; Supplier Part Number 1: TPS65124RGTTG4-ND; Supplier 2: Newark; Supplier Part Number 2: 33K7646; Supplier 3: Mouser; Supplier Part Number 3: 595-TPS65124RGTTG4; Eco-Plan: Green (RoHS & no Sb/Br); Mounting Technology: Surface Mount; Code_JEDEC: MO-220; ComponentLink1Description: Manufacturer URL; ComponentLink1URL: http://www.ti.com/; ComponentLink2Description: Datasheet; ComponentLink2URL: http://www.ti.com/general/docs/lit/getliterature.tsp?genericPartNumber=TPS65124&fileType=pdf; ComponentLink3Description: Package Specification; ComponentLink3URL: http://www.ti.com/litv/pdf/mpqf119g
footprint TI-RGT16-1700X1700TP_V (QFN, 16-Leads, Body 3x3mm, Pitch 0.5mm, Thermal Pad 1.7x1.7mm)
pins: 1 EN (in) "This is the enable pin of the multiple-output dc-to-dc converter. This pin must be terminated and not be left floating. A simultaneous logic-high level on EN and RUN enables the converter and a logic-low shuts down the (See Datasheet)", 2 RUN (in) "RUN controls the external P-Channel MOSFET. This pin must be terminated and not be left floating. Forcing this pin to a logic-high level turns on the external MOSFET switch.", 3 ENVGL (in) "Enable pin for negative output (TPS65124). This pin should be terminated and not be left floating", 4 ENVGH (in) "Enable pin for positive output (TPS65124). This pin should be terminated and not be left floating", 5 FBL (in) "Feedback pin for the negative output voltage divider. Regulates to 0 V nominal. Connect feedback resistor divider between VGL and main output.", 6 FBM (in) "Feedback pin for the main output voltage divider. Regulates to 1.213V nominal.", 7 AGND (power) "Analog ground. Connect to power ground (PGND) underneath IC. Pins 3 and 4 are only used for AGND in TPS65123.", 8 VMAIN (power) "Main output", 9 FBH (in) "Feedback pin for the positive output voltage divider. Regulates to 1.213 V nominal.", 10 VGH (power) "Positive output", 11 BOOT (power) "Provides a bootstrapped supply for the rectifier MOSFET driver, enabling the gate of the MOSFET to be driven above the output voltage.", 12 PGND (power) "Power ground. Connect to AGND underneath the IC.", 13 SWP (power) "Connect the inductor to this pin. This pin is connected to the drain of the low-side MOSFET switch.", 14 SWN (power) "Connect the inductor to this pin. This pin is connected to the source of the high-side MOSFET switch.", 15 VIN (power) "This is the input voltage pin of the device", 16 GATE (io) "This pin can either be the gate driver output to an external small P-Channel MOSFET (see application section), or an active high control input. Pulling GATE above the 1.4 V logic-high level and RUN to a logic-low level (See Datasheet)", 17 AGND (power) "Exposed Thermal Die"

## TPS65130RGER
designator U?
Postive and Negative Output DC-DC Converter, 2.7 to 5.5 V, -40 to 85 degC, 24-pin QFN (RGE24), Green (RoHS & no Sb/Br); Manufacturer: Texas Instruments; PartNumber: TPS65130RGER; Iq(Typ)(mA): 0.5; Rating: Catalog; SubFamily: LCD/OLED Display Bias Solutions; Switching Frequency(Typ)(kHz): 1400; Topology: Boost, Inverting Buck/Boost; Vin(Max)(V): 5.5; Vin(Min)(V): 2.7; DatasheetVersion: SLVS493B; PackageVersion: 4204104/G; PackageReference: RGE24-2450X2450TP; PackageDescription: 24-Pin Plastic Flat Pack, Body 4 x 4 mm, 0.5 mm Pitch; Supplier 1: Digi-Key; Supplier Part Number 1: 296-17080-2-ND; Supplier 2: Digi-Key; Supplier Part Number 2: 296-17080-1-ND; Supplier 3: Digi-Key; Supplier Part Number 3: 296-17080-6-ND; Supplier 4: Newark; Supplier Part Number 4: 01J0979; Supplier 5: Mouser; Supplier Part Number 5: 595-TPS65130RGER; Eco-Plan: Green (RoHS & no Sb/Br); Mounting Technology: Surface Mount; Code_JEDEC: MO-220; ComponentLink1Description: Manufacturer URL; ComponentLink1URL: http://www.ti.com/; ComponentLink2Description: Datasheet; ComponentLink2URL: http://www.ti.com/general/docs/lit/getliterature.tsp?genericPartNumber=TPS65130&fileType=pdf; ComponentLink3Description: Package Specification; ComponentLink3URL: http://www.ti.com/litv/pdf/mpqf124f
footprint TI-RGE24-2450X2450TP_V (QFN, 24-Leads, Body 4x4mm, Pitch 0.5mm, Thermal Pad 2.45x2.45mm)
pins: 1 INP (power) "Boost converter switch input.", 2 PGND (power) "Power ground pin", 3 PGND (power) "Power ground pin", 4 VIN (power) "Control supply input", 5 INN (power) "Inverting converter switch input", 6 INN (power) "Inverting converter switch input", 7 BSW (out) "Gate control pin for external battery switch. This pin goes low when ENP is set high.", 8 ENP (in) "Enable pin for the positive output voltage (0 V: disabled, VIN: enabled)", 9 PSP (in) "Power-save mode enable for boost converter stage (0 V: disabled, VIN: enabled)", 10 ENN (in) "Enable pin for the negative output voltage (0 V: disabled, VIN: enabled)", 11 PSN (in) "Power-save mode enable for inverter stage (0 V: disabled, VIN: enabled)", 12 NC "Not connected", 13 OUTN (power) "Inverting converter switch output.", 14 OUTN (power) "Inverting converter switch output.", 15 VNEG (in) "Negative output voltage sense input", 16 FBN (in) "Feedback pin for the negative output voltage divider", 17 VREF (out) "Reference output voltage. Bypass this pin with a 220-nF capacitor to ground. Connect the lower resistor of the negative output voltage divider to this pin", 18 CN "Compensation pin for inverting converter control", 19 AGND (power) "Analog ground pin", 20 NC "Not connected", 21 CP "Compensation pin for boost converter control", 22 FBP (in) "Feedback pin for the positive output voltage divider", 23 VPOS (in) "Positive output voltage sense input", 24 INP (power) "Boost converter switch input.", 25 PP (power) "Must be soldered to achieve appropriate power dissipation and for mechanical reasons. Must be connected to GND."

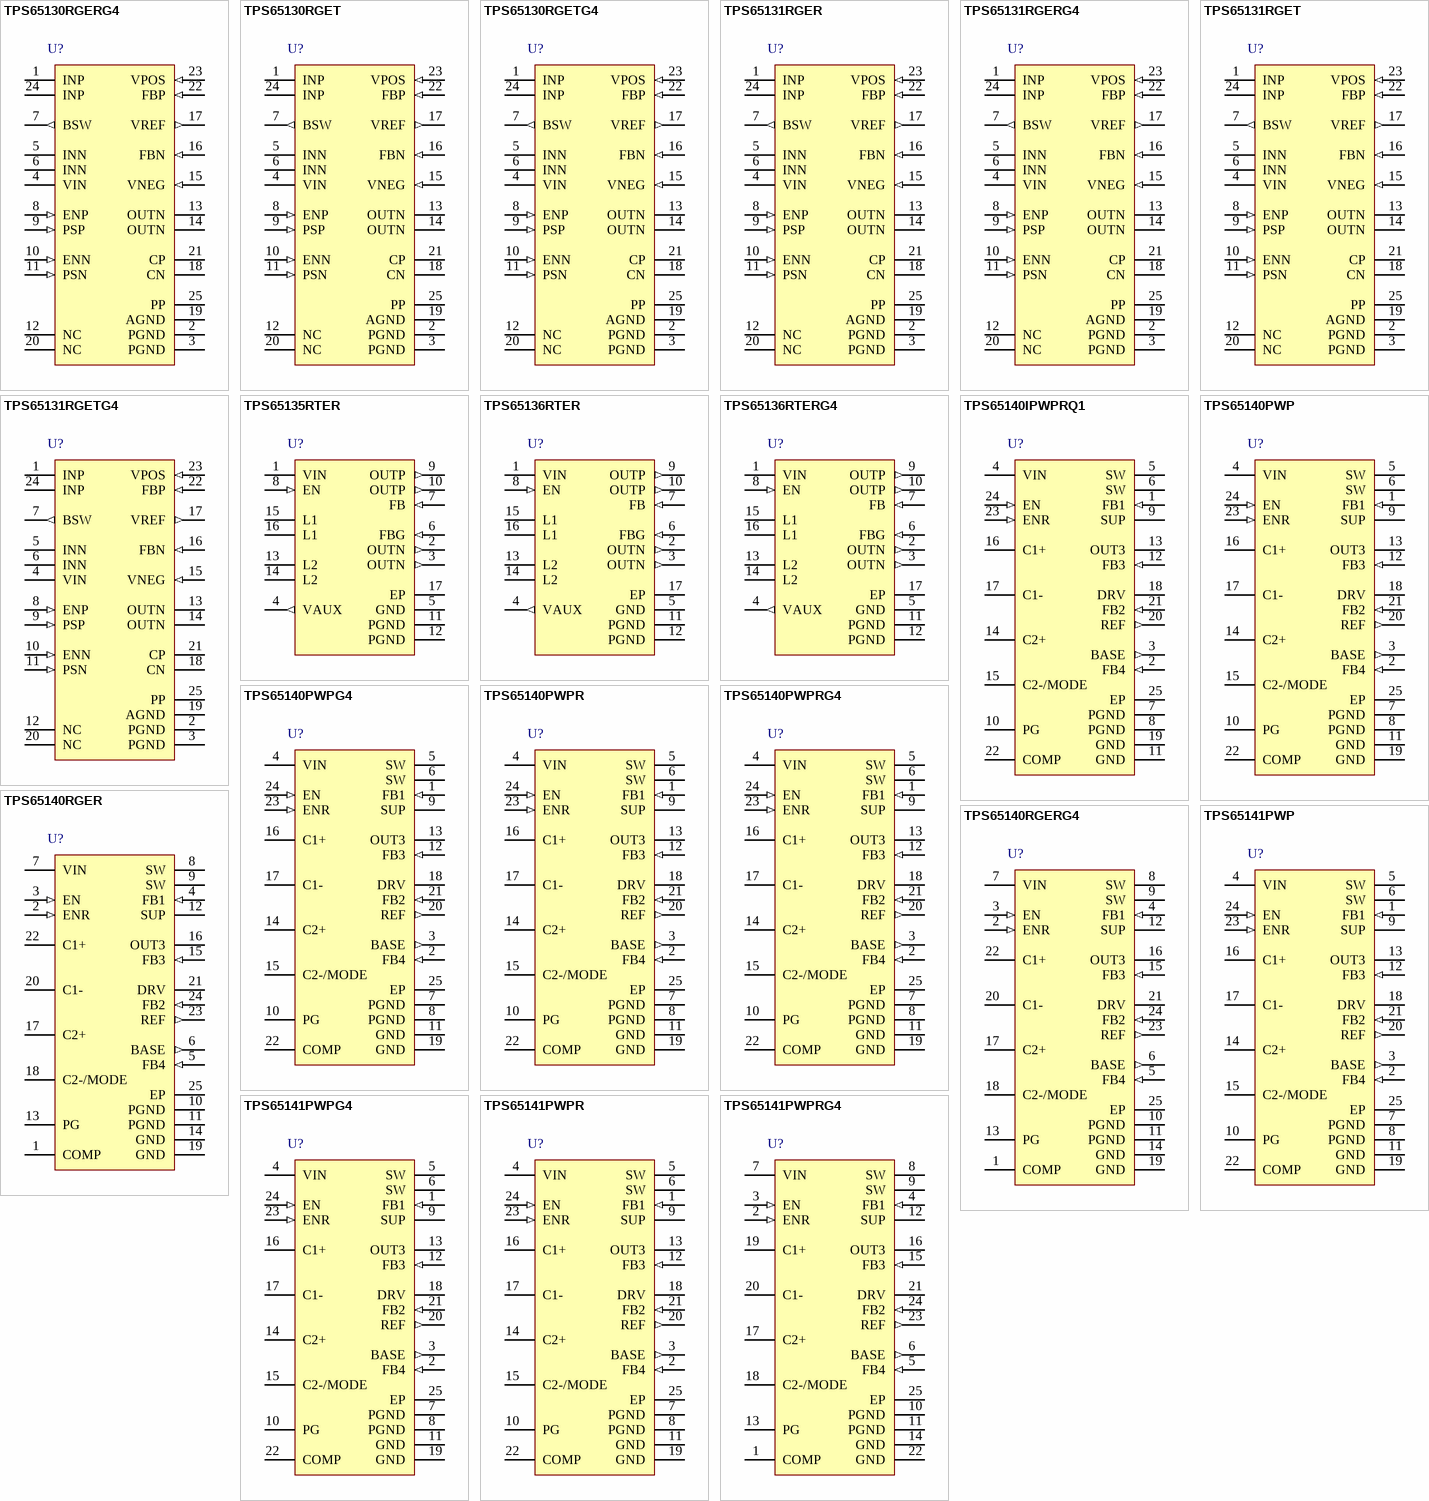
[diagram p22: symbols TPS65130RGERG4 to TPS65141PWPRG4]

## TPS65130RGERG4
designator U?
Postive and Negative Output DC-DC Converter, 2.7 to 5.5 V, -40 to 85 degC, 24-pin QFN (RGE24), Green (RoHS & no Sb/Br); Manufacturer: Texas Instruments; PartNumber: TPS65130RGERG4; Iq(Typ)(mA): 0.5; Rating: Catalog; SubFamily: LCD/OLED Display Bias Solutions; Switching Frequency(Typ)(kHz): 1400; Topology: Boost, Inverting Buck/Boost; Vin(Max)(V): 5.5; Vin(Min)(V): 2.7; DatasheetVersion: SLVS493B; PackageVersion: 4204104/G; PackageReference: RGE24-2450X2450TP; PackageDescription: 24-Pin Plastic Flat Pack, Body 4 x 4 mm, 0.5 mm Pitch; Supplier 1: Digi-Key; Supplier Part Number 1: TPS65130RGERG4-ND; Supplier 2: Newark; Supplier Part Number 2: 71J8219; Supplier 3: Mouser; Supplier Part Number 3: 595-TPS65130RGERG4; Eco-Plan: Green (RoHS & no Sb/Br); Mounting Technology: Surface Mount; Code_JEDEC: MO-220; ComponentLink1Description: Manufacturer URL; ComponentLink1URL: http://www.ti.com/; ComponentLink2Description: Datasheet; ComponentLink2URL: http://www.ti.com/general/docs/lit/getliterature.tsp?genericPartNumber=TPS65130&fileType=pdf; ComponentLink3Description: Package Specification; ComponentLink3URL: http://www.ti.com/litv/pdf/mpqf124f
footprint TI-RGE24-2450X2450TP_V (QFN, 24-Leads, Body 4x4mm, Pitch 0.5mm, Thermal Pad 2.45x2.45mm)
pins: 1 INP (power) "Boost converter switch input.", 2 PGND (power) "Power ground pin", 3 PGND (power) "Power ground pin", 4 VIN (power) "Control supply input", 5 INN (power) "Inverting converter switch input", 6 INN (power) "Inverting converter switch input", 7 BSW (out) "Gate control pin for external battery switch. This pin goes low when ENP is set high.", 8 ENP (in) "Enable pin for the positive output voltage (0 V: disabled, VIN: enabled)", 9 PSP (in) "Power-save mode enable for boost converter stage (0 V: disabled, VIN: enabled)", 10 ENN (in) "Enable pin for the negative output voltage (0 V: disabled, VIN: enabled)", 11 PSN (in) "Power-save mode enable for inverter stage (0 V: disabled, VIN: enabled)", 12 NC "Not connected", 13 OUTN (power) "Inverting converter switch output.", 14 OUTN (power) "Inverting converter switch output.", 15 VNEG (in) "Negative output voltage sense input", 16 FBN (in) "Feedback pin for the negative output voltage divider", 17 VREF (out) "Reference output voltage. Bypass this pin with a 220-nF capacitor to ground. Connect the lower resistor of the negative output voltage divider to this pin", 18 CN "Compensation pin for inverting converter control", 19 AGND (power) "Analog ground pin", 20 NC "Not connected", 21 CP "Compensation pin for boost converter control", 22 FBP (in) "Feedback pin for the positive output voltage divider", 23 VPOS (in) "Positive output voltage sense input", 24 INP (power) "Boost converter switch input.", 25 PP (power) "Must be soldered to achieve appropriate power dissipation and for mechanical reasons. Must be connected to GND."